# Altium schematic symbol library 新塘单片机.SchLib: 5 symbols
Pins are listed as number, name and electrical type; pins without a type are passive.

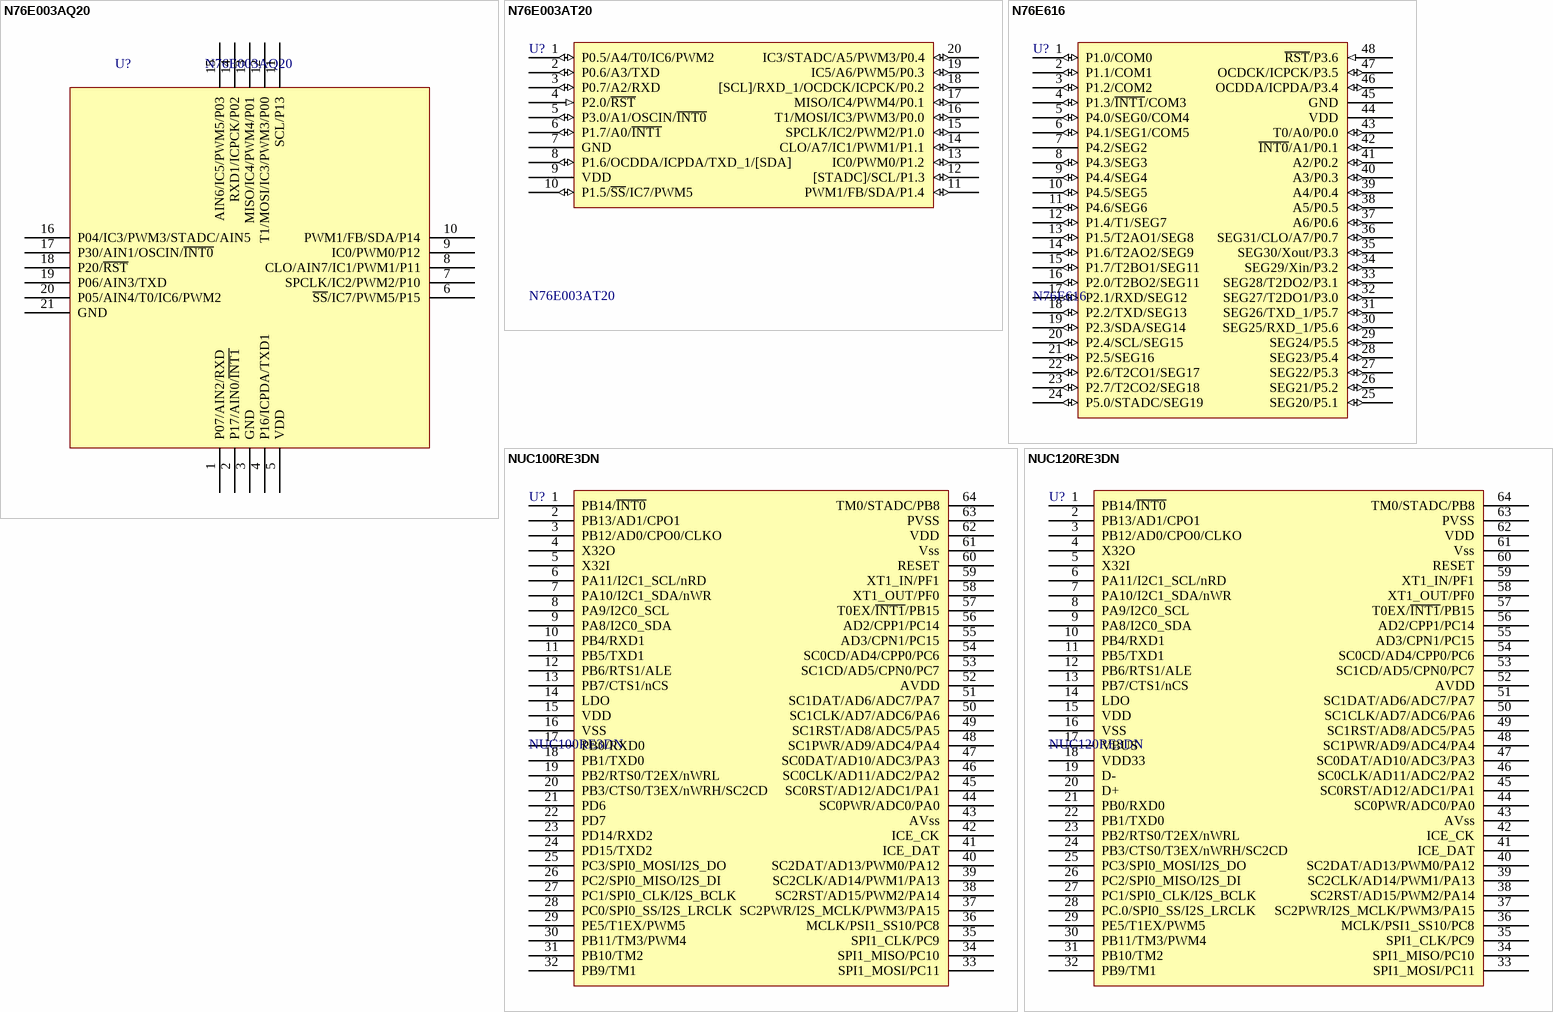
[diagram p0: symbols N76E003AQ20 to NUC120RE3DN]

## N76E003AQ20
designator U?
Flash: 18K,     RAM: 1K,     IO: 18; BOM名称: 8位单片机; 版权归属: 源创客; 学习资源: www.ooocke.com; 描述: Flash: 18K,     RAM: 1K,  IO: 18
footprint QFN20 3X3_M (20脚，长x宽x高：3x3x0.8mm，脚距：0.4mm)
pins: 1 P07/AIN2/RXD, 2 P17/AIN0/~{INT1}, 3 GND, 4 P16/ICPDA/TXD1, 5 VDD, 6 ~{SS}/IC7/PWM5/P15, 7 SPCLK/IC2/PWM2/P10, 8 CLO/AIN7/IC1/PWM1/P11, 9 IC0/PWM0/P12, 10 PWM1/FB/SDA/P14, 11 SCL/P13, 12 T1/MOSI/IC3/PWM3/P00, 13 MISO/IC4/PWM4/P01, 14 RXD1/ICPCK/P02, 15 AIN6/IC5/PWM5/P03, 16 P04/IC3/PWM3/STADC/AIN5, 17 P30/AIN1/OSCIN/~{INT0}, 18 P20/~{RST}, 19 P06/AIN3/TXD, 20 P05/AIN4/T0/IC6/PWM2, 21 GND

## N76E003AT20
designator U?
Flash: 18K,     RAM: 1K,     IO: 18; BOM名称: 8位新唐单片机; 版权归属: 源创客; 学习资源: www.ooocke.com; 描述: Flash: 18K,     RAM: 1K,  IO: 18
footprint TSSOP20_N (6.5*6.4*1（长宽高）)
footprint TSSOP20_L (6.5*6.4*1（长宽高）)
footprint TSSOP20_M (6.5*6.4*1（长宽高）)
pins: 1 P0.5/A4/T0/IC6/PWM2 (io), 2 P0.6/A3/TXD (io), 3 P0.7/A2/RXD (io), 4 P2.0/~{RST} (in), 5 P3.0/A1/OSCIN/~{INT0} (io), 6 P1.7/A0/~{INT1} (io), 7 GND (power), 8 P1.6/OCDDA/ICPDA/TXD_1/[SDA] (io), 9 VDD (power), 10 P1.5/~{SS}/IC7/PWM5 (io), 11 PWM1/FB/SDA/P1.4 (io), 12 [STADC]/SCL/P1.3 (io), 13 IC0/PWM0/P1.2 (io), 14 CLO/A7/IC1/PWM1/P1.1 (io), 15 SPCLK/IC2/PWM2/P1.0 (io), 16 T1/MOSI/IC3/PWM3/P0.0 (io), 17 MISO/IC4/PWM4/P0.1 (io), 18 [SCL]/RXD_1/OCDCK/ICPCK/P0.2 (io), 19 IC5/A6/PWM5/P0.3 (io), 20 IC3/STADC/A5/PWM3/P0.4 (io)

## N76E616
designator U?
Flash: 18K,     RAM: 0.5K,  IO: 46; BOM名称: 8位新唐单片机; 版权归属: 源创客; 描述: Flash: 18K,     RAM: 1K,  IO: 18; 学习资源: www.ooocke.com
footprint LQFP48 7X7_N (48脚，体宽7x7mm，脚距0.5mm)
footprint LQFP48 7X7_L (48脚，体宽7x7mm，脚距0.5mm)
footprint LQFP48 7X7_M (48脚，体宽7x7mm，脚距0.5mm)
pins: 1 P1.0/COM0 (io), 2 P1.1/COM1 (io), 3 P1.2/COM2 (io), 4 P1.3/~{INT1}/COM3 (io), 5 P4.0/SEG0/COM4 (io), 6 P4.1/SEG1/COM5 (io), 7 P4.2/SEG2 (power), 8 P4.3/SEG3 (io), 9 P4.4/SEG4 (io), 10 P4.5/SEG5 (io), 11 P4.6/SEG6 (io), 12 P1.4/T1/SEG7 (io), 13 P1.5/T2AO1/SEG8 (io), 14 P1.6/T2AO2/SEG9 (io), 15 P1.7/T2BO1/SEG11 (io), 16 P2.0/T2BO2/SEG11 (io), 17 P2.1/RXD/SEG12 (io), 18 P2.2/TXD/SEG13 (io), 19 P2.3/SDA/SEG14 (io), 20 P2.4/SCL/SEG15 (io), 21 P2.5/SEG16 (io), 22 P2.6/T2CO1/SEG17 (io), 23 P2.7/T2CO2/SEG18 (io), 24 P5.0/STADC/SEG19 (io), 25 SEG20/P5.1 (io), 26 SEG21/P5.2 (io), 27 SEG22/P5.3 (io), 28 SEG23/P5.4 (io), 29 SEG24/P5.5 (io), 30 SEG25/RXD_1/P5.6 (io), 31 SEG26/TXD_1/P5.7 (io), 32 SEG27/T2DO1/P3.0 (io), 33 SEG28/T2DO2/P3.1 (io), 34 SEG29/Xin/P3.2 (io), 35 SEG30/Xout/P3.3 (io), 36 SEG31/CLO/A7/P0.7 (io), 37 A6/P0.6 (io), 38 A5/P0.5 (io), 39 A4/P0.4 (io), 40 A3/P0.3 (io), 41 A2/P0.2 (io), 42 ~{INT0}/A1/P0.1 (io), 43 T0/A0/P0.0 (io), 44 VDD (power), 45 GND (power), 46 OCDDA/ICPDA/P3.4 (io), 47 OCDCK/ICPCK/P3.5 (io), 48 ~{RST}/P3.6 (in)

## NUC100RE3DN
designator U?
Flash: 128K,     RAM: 16K,  IO: 51; BOM名称: 32位单片机; 版权归属: 源创客; 学习资源: www.ooocke.com; 描述: Flash: 128K,     RAM: 16K,  IO: 51
footprint LQFP64 10X10_N (64脚，体宽10x10mm，脚距0.5mm)
footprint LQFP64 10X10_L (64脚，体宽10x10mm，脚距0.5mm)
footprint LQFP64 10X10_M (64脚，体宽10x10mm，脚距0.5mm)
pins: 1 PB14/~{INT0}, 2 PB13/AD1/CPO1, 3 PB12/AD0/CPO0/CLKO, 4 X32O, 5 X32I, 6 PA11/I2C1_SCL/nRD, 7 PA10/I2C1_SDA/nWR, 8 PA9/I2C0_SCL, 9 PA8/I2C0_SDA, 10 PB4/RXD1, 11 PB5/TXD1, 12 PB6/RTS1/ALE, 13 PB7/CTS1/nCS, 14 LDO, 15 VDD, 16 VSS, 17 PB0/RXD0, 18 PB1/TXD0, 19 PB2/RTS0/T2EX/nWRL, 20 PB3/CTS0/T3EX/nWRH/SC2CD, 21 PD6, 22 PD7, 23 PD14/RXD2, 24 PD15/TXD2, 25 PC3/SPI0_MOSI/I2S_DO, 26 PC2/SPI0_MISO/I2S_DI, 27 PC1/SPI0_CLK/I2S_BCLK, 28 PC0/SPI0_SS/I2S_LRCLK, 29 PE5/T1EX/PWM5, 30 PB11/TM3/PWM4, 31 PB10/TM2, 32 PB9/TM1, 33 SPI1_MOSI/PC11, 34 SPI1_MISO/PC10, 35 SPI1_CLK/PC9, 36 MCLK/PSI1_SS10/PC8, 37 SC2PWR/I2S_MCLK/PWM3/PA15, 38 SC2RST/AD15/PWM2/PA14, 39 SC2CLK/AD14/PWM1/PA13, 40 SC2DAT/AD13/PWM0/PA12, 41 ICE_DAT, 42 ICE_CK, 43 AVss, 44 SC0PWR/ADC0/PA0, 45 SC0RST/AD12/ADC1/PA1, 46 SC0CLK/AD11/ADC2/PA2, 47 SC0DAT/AD10/ADC3/PA3, 48 SC1PWR/AD9/ADC4/PA4, 49 SC1RST/AD8/ADC5/PA5, 50 SC1CLK/AD7/ADC6/PA6, 51 SC1DAT/AD6/ADC7/PA7, 52 AVDD, 53 SC1CD/AD5/CPN0/PC7, 54 SC0CD/AD4/CPP0/PC6, 55 AD3/CPN1/PC15, 56 AD2/CPP1/PC14, 57 T0EX/~{INT1}/PB15, 58 XT1_OUT/PF0, 59 XT1_IN/PF1, 60 RESET, 61 Vss, 62 VDD, 63 PVSS, 64 TM0/STADC/PB8

## NUC120RE3DN
designator U?
Flash: 128K,     RAM: 16K,  IO: 47; BOM名称: 32位单片机; 版权归属: 源创客; 学习资源: www.ooocke.com; 描述: Flash: 128K,     RAM: 16K,  IO: 47
footprint LQFP64 10X10_N (64脚，体宽10x10mm，脚距0.5mm)
footprint LQFP64 10X10_L (64脚，体宽10x10mm，脚距0.5mm)
footprint LQFP64 10X10_M (64脚，体宽10x10mm，脚距0.5mm)
pins: 1 PB14/~{INT0}, 2 PB13/AD1/CPO1, 3 PB12/AD0/CPO0/CLKO, 4 X32O, 5 X32I, 6 PA11/I2C1_SCL/nRD, 7 PA10/I2C1_SDA/nWR, 8 PA9/I2C0_SCL, 9 PA8/I2C0_SDA, 10 PB4/RXD1, 11 PB5/TXD1, 12 PB6/RTS1/ALE, 13 PB7/CTS1/nCS, 14 LDO, 15 VDD, 16 VSS, 17 VBUS, 18 VDD33, 19 D-, 20 D+, 21 PB0/RXD0, 22 PB1/TXD0, 23 PB2/RTS0/T2EX/nWRL, 24 PB3/CTS0/T3EX/nWRH/SC2CD, 25 PC3/SPI0_MOSI/I2S_DO, 26 PC2/SPI0_MISO/I2S_DI, 27 PC1/SPI0_CLK/I2S_BCLK, 28 PC.0/SPI0_SS/I2S_LRCLK, 29 PE5/T1EX/PWM5, 30 PB11/TM3/PWM4, 31 PB10/TM2, 32 PB9/TM1, 33 SPI1_MOSI/PC11, 34 SPI1_MISO/PC10, 35 SPI1_CLK/PC9, 36 MCLK/PSI1_SS10/PC8, 37 SC2PWR/I2S_MCLK/PWM3/PA15, 38 SC2RST/AD15/PWM2/PA14, 39 SC2CLK/AD14/PWM1/PA13, 40 SC2DAT/AD13/PWM0/PA12, 41 ICE_DAT, 42 ICE_CK, 43 AVss, 44 SC0PWR/ADC0/PA0, 45 SC0RST/AD12/ADC1/PA1, 46 SC0CLK/AD11/ADC2/PA2, 47 SC0DAT/AD10/ADC3/PA3, 48 SC1PWR/AD9/ADC4/PA4, 49 SC1RST/AD8/ADC5/PA5, 50 SC1CLK/AD7/ADC6/PA6, 51 SC1DAT/AD6/ADC7/PA7, 52 AVDD, 53 SC1CD/AD5/CPN0/PC7, 54 SC0CD/AD4/CPP0/PC6, 55 AD3/CPN1/PC15, 56 AD2/CPP1/PC14, 57 T0EX/~{INT1}/PB15, 58 XT1_OUT/PF0, 59 XT1_IN/PF1, 60 RESET, 61 Vss, 62 VDD, 63 PVSS, 64 TM0/STADC/PB8